# Altium schematic symbol library IR21531.SchLib: 1 symbol
Pins are listed as number, name and electrical type; pins without a type are passive.

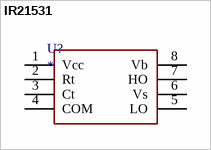
[diagram p0: symbol IR21531]

## IR21531
designator U?
IR21531
footprint ADI-R-8_N (SOIC, 8-Leads, Body 4.9x3.9mm, Pitch 1.27mm, IPC Medium Density)
footprint ADI-R-8_M (SOIC, 8-Leads, Body 4.9x3.9mm, Pitch 1.27mm, IPC Low Density)
footprint ADI-R-8_L (SOIC, 8-Leads, Body 4.9x3.9mm, Pitch 1.27mm, IPC High Density)
pins: 1 Vcc "Termal Pad", 2 Rt "Termal Pad", 3 Ct "Termal Pad", 4 COM "Termal Pad", 5 LO "Termal Pad", 6 Vs "Termal Pad", 7 HO "Termal Pad", 8 Vb "Termal Pad"